# EAGLE library part ATMEGA328P_TQFP (library StasDuinoLib2)
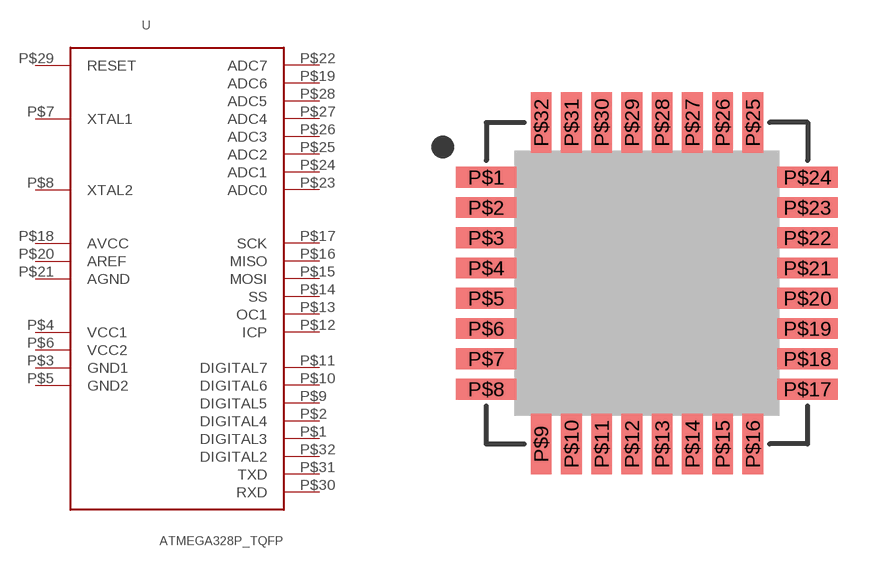
[diagram p0: symbol with the pads of ATMEGA328P_TQFP; footprint ATMEGA328P_TQFP]

Designator prefix -

## ATMEGA328P_TQFP  [ATMEGA328P_TQFP]
P$1  DIGITAL3
P$2  DIGITAL4
P$3  GND1
P$4  VCC1
P$5  GND2
P$6  VCC2
P$7  XTAL1
P$8  XTAL2
P$9  DIGITAL5
P$10  DIGITAL6
P$11  DIGITAL7
P$12  ICP
P$13  OC1
P$14  SS
P$15  MOSI
P$16  MISO
P$17  SCK
P$18  AVCC
P$19  ADC6
P$20  AREF
P$21  AGND
P$22  ADC7
P$23  ADC0
P$24  ADC1
P$25  ADC2
P$26  ADC3
P$27  ADC4
P$28  ADC5
P$29  RESET
P$30  RXD
P$31  TXD
P$32  DIGITAL2

## Footprint ATMEGA328P_TQFP (pad centres in mm)
smd 1.6 x 0.55: P$1 -4.25,2.8; P$2 -4.25,2; P$3 -4.25,1.2; P$4 -4.25,0.4; P$5 -4.25,-0.4; P$6 -4.25,-1.2; P$7 -4.25,-2; P$8 -4.25,-2.8; P$17 4.25,-2.8; P$18 4.25,-2; P$19 4.25,-1.2; P$20 4.25,-0.4; P$21 4.25,0.4; P$22 4.25,1.2; P$23 4.25,2; P$24 4.25,2.8
smd 0.55 x 1.6: P$9 -2.8,-4.25; P$10 -2,-4.25; P$11 -1.2,-4.25; P$12 -0.4,-4.25; P$13 0.4,-4.25; P$14 1.2,-4.25; P$15 2,-4.25; P$16 2.8,-4.25; P$25 2.8,4.25; P$26 2,4.25; P$27 1.2,4.25; P$28 0.4,4.25; P$29 -0.4,4.25; P$30 -1.2,4.25; P$31 -2,4.25; P$32 -2.8,4.25